# Altium footprint library Dallas Semiconductor Footprints.PcbLib: 181 footprints (part 4 of 12)
Each footprint in its own frame and in the unit in brackets; x right, y up, seen from the top. Pads: shape width x height; smd on the part's side, far side on the other; paste and mask are expansions set on the pad; w line width, h text height; cw(c..) or ccw(c..) is an arc to the next point about the centre after c.
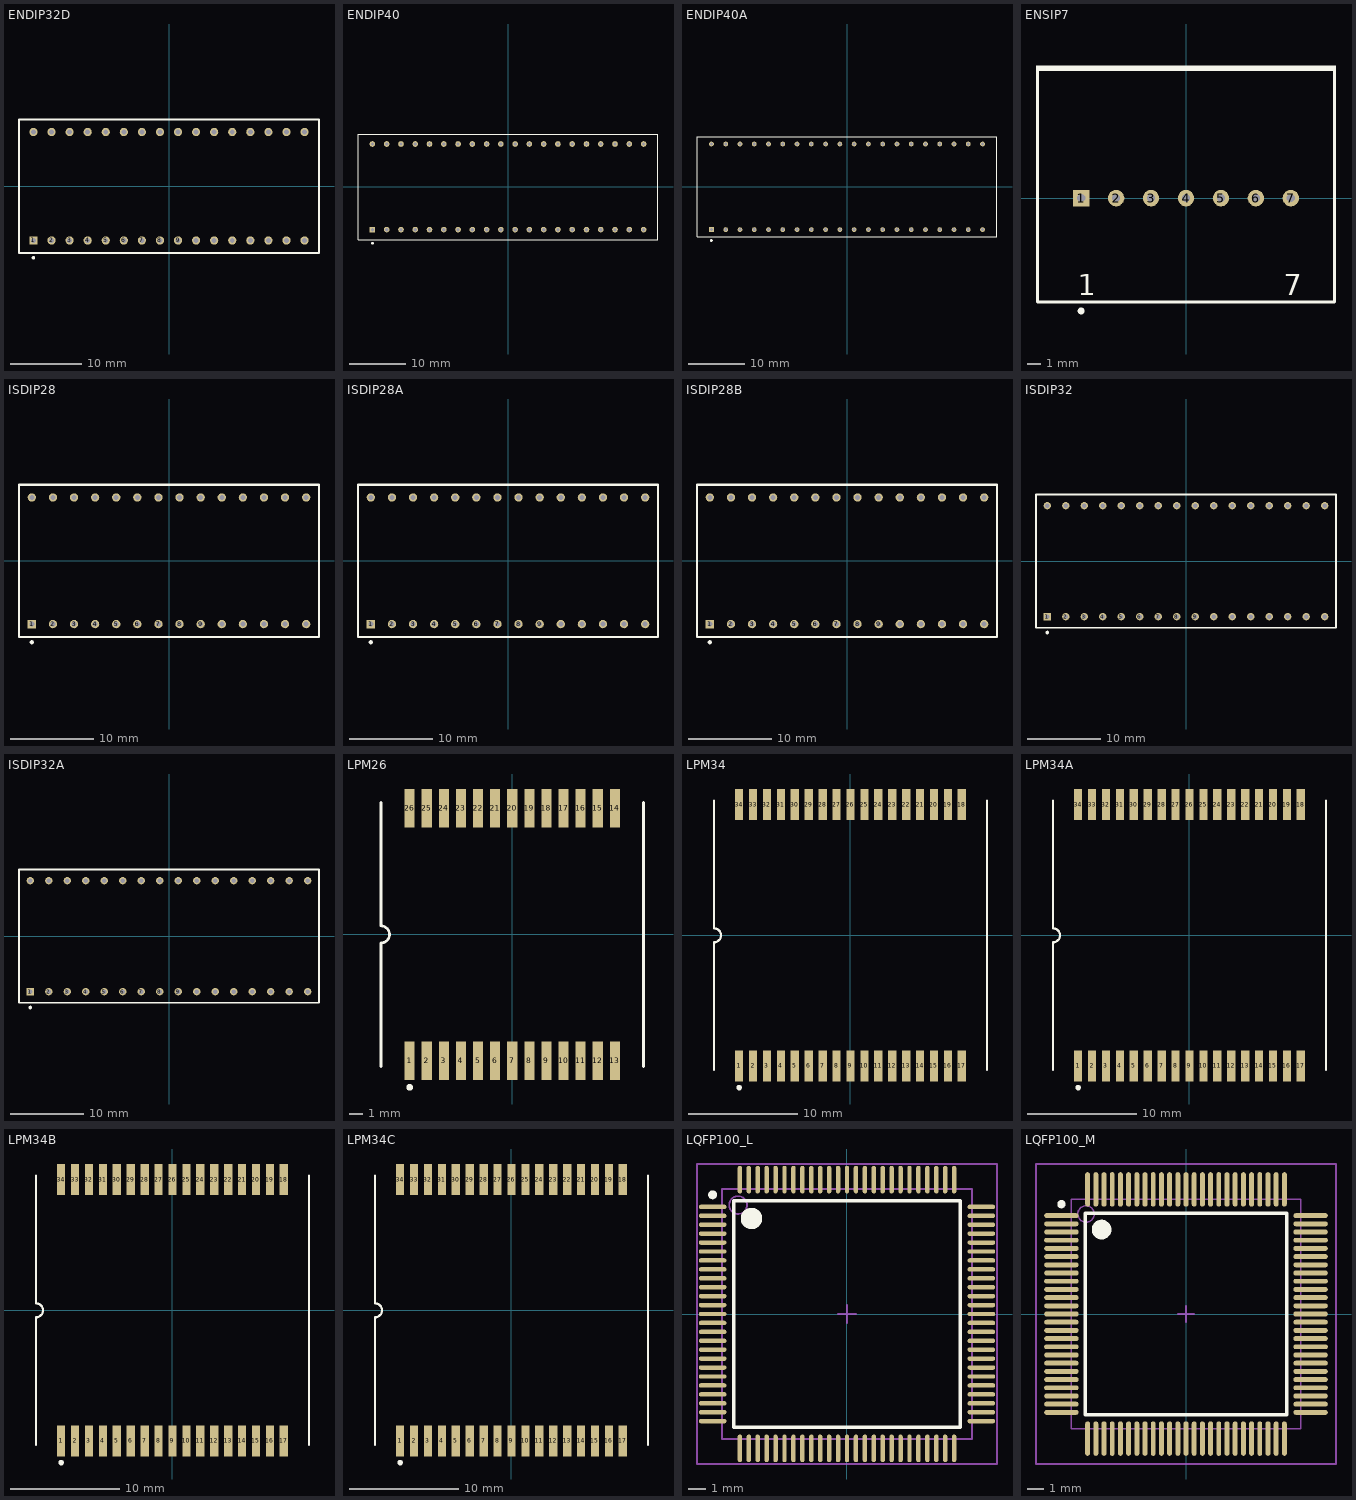
[diagram p3: the footprints below, top view; thin cyan lines are the x and y axes]

## ENDIP32D [mm] "DIP; 32 Rectangular Pins; Row Space 15.24 mm; Pitch 2.54 mm"
height 9.02
pads (32):
  rect 1.15x1.15 hole 0.7: 1(-19.05,-7.62)
  round 1.15 hole 0.7: 2(-16.51,-7.62) 3(-13.97,-7.62) 4(-11.43,-7.62) 5(-8.89,-7.62) 6(-6.35,-7.62) 7(-3.81,-7.62) 8(-1.27,-7.62) 9(1.27,-7.62) 10(3.81,-7.62) 11(6.35,-7.62) 12(8.89,-7.62) 13(11.43,-7.62) 14(13.97,-7.62) 15(16.51,-7.62) 16(19.05,-7.62) 17(19.05,7.62) 18(16.51,7.62) 19(13.97,7.62) 20(11.43,7.62) 21(8.89,7.62) 22(6.35,7.62) 23(3.81,7.62) 24(1.27,7.62) 25(-1.27,7.62) 26(-3.81,7.62) 27(-6.35,7.62) 28(-8.89,7.62) 29(-11.43,7.62) 30(-13.97,7.62) 31(-16.51,7.62) 32(-19.05,7.62)
Top Overlay:
  circle w0.25: c-19.05,-10.05 r0.125
  lines w0.25: -21.082,-9.4 -21.082,-0.508 -21.082,9.4 21.082,9.4 21.082,-9.4 -21.082,-9.4

## ENDIP40 [mm] "DIP; 40 Rectangular Pins; Row Space 15.24 mm; Pitch 2.54 mm"
height 9.27
pads (40):
  rect 1x1 hole 0.6: 1(-24.13,-7.62)
  round 1 hole 0.6: 2(-21.59,-7.62) 3(-19.05,-7.62) 4(-16.51,-7.62) 5(-13.97,-7.62) 6(-11.43,-7.62) 7(-8.89,-7.62) 8(-6.35,-7.62) 9(-3.81,-7.62) 10(-1.27,-7.62) 11(1.27,-7.62) 12(3.81,-7.62) 13(6.35,-7.62) 14(8.89,-7.62) 15(11.43,-7.62) 16(13.97,-7.62) 17(16.51,-7.62) 18(19.05,-7.62) 19(21.59,-7.62) 20(24.13,-7.62) 21(24.13,7.62) 22(21.59,7.62) 23(19.05,7.62) 24(16.51,7.62) 25(13.97,7.62) 26(11.43,7.62) 27(8.89,7.62) 28(6.35,7.62) 29(3.81,7.62) 30(1.27,7.62) 31(-1.27,7.62) 32(-3.81,7.62) 33(-6.35,7.62) 34(-8.89,7.62) 35(-11.43,7.62) 36(-13.97,7.62) 37(-16.51,7.62) 38(-19.05,7.62) 39(-21.59,7.62) 40(-24.13,7.62)
Top Overlay:
  circle w0.25: c-24.13,-10.05 r0.125
  lines w0.2: -26.7,-9.4 26.7,-9.4 26.7,9.4 -26.7,9.4 -26.7,-0.635 -26.7,-9.4

## ENDIP40A [mm] "DIP; 40 Rectangular Pins; Row Space 15.24 mm; Pitch 2.54 mm"
height 9.25
pads (40):
  rect 0.85x0.85 hole 0.5: 1(-24.13,-7.62)
  round 0.85 hole 0.5: 2(-21.59,-7.62) 3(-19.05,-7.62) 4(-16.51,-7.62) 5(-13.97,-7.62) 6(-11.43,-7.62) 7(-8.89,-7.62) 8(-6.35,-7.62) 9(-3.81,-7.62) 10(-1.27,-7.62) 11(1.27,-7.62) 12(3.81,-7.62) 13(6.35,-7.62) 14(8.89,-7.62) 15(11.43,-7.62) 16(13.97,-7.62) 17(16.51,-7.62) 18(19.05,-7.62) 19(21.59,-7.62) 20(24.13,-7.62) 21(24.13,7.62) 22(21.59,7.62) 23(19.05,7.62) 24(16.51,7.62) 25(13.97,7.62) 26(11.43,7.62) 27(8.89,7.62) 28(6.35,7.62) 29(3.81,7.62) 30(1.27,7.62) 31(-1.27,7.62) 32(-3.81,7.62) 33(-6.35,7.62) 34(-8.89,7.62) 35(-11.43,7.62) 36(-13.97,7.62) 37(-16.51,7.62) 38(-19.05,7.62) 39(-21.59,7.62) 40(-24.13,7.62)
Top Overlay:
  circle w0.25: c-24.13,-9.55 r0.125
  lines w0.2: -26.7,-8.9 -26.7,-0.635 -26.7,8.9 26.7,8.9 26.7,-8.9 -26.7,-8.9

## ENSIP7 [mm] "SIP; 7 Leads; Body 21.3 x 16.8 mm (LxW typ); Pitch 2.54 mm"
height 8.7
pads (7):
  rect 1.2x1.2 hole 0.6: 1(-7.62,0)
  round 1.2 hole 0.6: 2(-5.08,0) 3(-2.54,0) 4(0,0) 5(2.54,0) 6(5.08,0) 7(7.62,0)
Top Overlay:
  circle w0.25: c-7.62,-8.2 r0.125
  rectangle: -10.9,9.25 10.9,9.65
  lines w0.2: -10.8,9.55 -10.8,-7.55 10.8,-7.55 10.8,9.55
  text "7" at 7.12,-7.075 h1.5
  text "1" at -7.87,-7.075 h1.5

## ISDIP28 [mm] "DIP; 28 Rectangular Pins; Row Space 15.24 mm; Pitch 2.54 mm"
height 11.94
pads (28):
  rect 1x1 hole 0.6: 1(-16.51,-7.62)
  round 1 hole 0.6: 2(-13.97,-7.62) 3(-11.43,-7.62) 4(-8.89,-7.62) 5(-6.35,-7.62) 6(-3.81,-7.62) 7(-1.27,-7.62) 8(1.27,-7.62) 9(3.81,-7.62) 10(6.35,-7.62) 11(8.89,-7.62) 12(11.43,-7.62) 13(13.97,-7.62) 14(16.51,-7.62) 15(16.51,7.62) 16(13.97,7.62) 17(11.43,7.62) 18(8.89,7.62) 19(6.35,7.62) 20(3.81,7.62) 21(1.27,7.62) 22(-1.27,7.62) 23(-3.81,7.62) 24(-6.35,7.62) 25(-8.89,7.62) 26(-11.43,7.62) 27(-13.97,7.62) 28(-16.51,7.62)
Top Overlay:
  circle w0.25: c-16.51,-9.8 r0.125
  lines w0.25: -18.05,-9.15 -18.05,-0.635 -18.05,9.15 18.05,9.15 18.05,-9.15 -18.05,-9.15

## ISDIP28A [mm] "DIP; 28 Rectangular Pins; Row Space 15.24 mm; Pitch 2.54 mm"
height 11.94
pads (28):
  rect 1x1 hole 0.6: 1(-16.51,-7.62)
  round 1 hole 0.6: 2(-13.97,-7.62) 3(-11.43,-7.62) 4(-8.89,-7.62) 5(-6.35,-7.62) 6(-3.81,-7.62) 7(-1.27,-7.62) 8(1.27,-7.62) 9(3.81,-7.62) 10(6.35,-7.62) 11(8.89,-7.62) 12(11.43,-7.62) 13(13.97,-7.62) 14(16.51,-7.62) 15(16.51,7.62) 16(13.97,7.62) 17(11.43,7.62) 18(8.89,7.62) 19(6.35,7.62) 20(3.81,7.62) 21(1.27,7.62) 22(-1.27,7.62) 23(-3.81,7.62) 24(-6.35,7.62) 25(-8.89,7.62) 26(-11.43,7.62) 27(-13.97,7.62) 28(-16.51,7.62)
Top Overlay:
  circle w0.25: c-16.51,-9.8 r0.125
  lines w0.25: -18.05,-9.15 -18.05,-0.635 -18.05,9.15 18.05,9.15 18.05,-9.15 -18.05,-9.15

## ISDIP28B [mm] "DIP; 28 Rectangular Pins; Row Space 15.24 mm; Pitch 2.54 mm"
height 10.67
pads (28):
  rect 1x1 hole 0.6: 1(-16.51,-7.62)
  round 1 hole 0.6: 2(-13.97,-7.62) 3(-11.43,-7.62) 4(-8.89,-7.62) 5(-6.35,-7.62) 6(-3.81,-7.62) 7(-1.27,-7.62) 8(1.27,-7.62) 9(3.81,-7.62) 10(6.35,-7.62) 11(8.89,-7.62) 12(11.43,-7.62) 13(13.97,-7.62) 14(16.51,-7.62) 15(16.51,7.62) 16(13.97,7.62) 17(11.43,7.62) 18(8.89,7.62) 19(6.35,7.62) 20(3.81,7.62) 21(1.27,7.62) 22(-1.27,7.62) 23(-3.81,7.62) 24(-6.35,7.62) 25(-8.89,7.62) 26(-11.43,7.62) 27(-13.97,7.62) 28(-16.51,7.62)
Top Overlay:
  circle w0.25: c-16.51,-9.8 r0.125
  lines w0.25: -18.05,-9.15 -18.05,-0.635 -18.05,9.15 18.05,9.15 18.05,-9.15 -18.05,-9.15

## ISDIP32 [mm] "DIP; 32 Rectangular Pins; Row Space 15.24 mm; Pitch 2.54 mm"
height 11.94
pads (32):
  rect 1x1 hole 0.6: 1(-19.05,-7.62)
  round 1 hole 0.6: 2(-16.51,-7.62) 3(-13.97,-7.62) 4(-11.43,-7.62) 5(-8.89,-7.62) 6(-6.35,-7.62) 7(-3.81,-7.62) 8(-1.27,-7.62) 9(1.27,-7.62) 10(3.81,-7.62) 11(6.35,-7.62) 12(8.89,-7.62) 13(11.43,-7.62) 14(13.97,-7.62) 15(16.51,-7.62) 16(19.05,-7.62) 17(19.05,7.62) 18(16.51,7.62) 19(13.97,7.62) 20(11.43,7.62) 21(8.89,7.62) 22(6.35,7.62) 23(3.81,7.62) 24(1.27,7.62) 25(-1.27,7.62) 26(-3.81,7.62) 27(-6.35,7.62) 28(-8.89,7.62) 29(-11.43,7.62) 30(-13.97,7.62) 31(-16.51,7.62) 32(-19.05,7.62)
Top Overlay:
  circle w0.25: c-19.05,-9.8 r0.125
  lines w0.25: -20.6,-9.15 -20.6,-0.635 -20.6,9.15 20.6,9.15 20.6,-9.15 -20.6,-9.15

## ISDIP32A [mm] "DIP; 32 Rectangular Pins; Row Space 15.24 mm; Pitch 2.54 mm"
height 10.4
pads (32):
  rect 1x1 hole 0.6: 1(-19.05,-7.62)
  round 1 hole 0.6: 2(-16.51,-7.62) 3(-13.97,-7.62) 4(-11.43,-7.62) 5(-8.89,-7.62) 6(-6.35,-7.62) 7(-3.81,-7.62) 8(-1.27,-7.62) 9(1.27,-7.62) 10(3.81,-7.62) 11(6.35,-7.62) 12(8.89,-7.62) 13(11.43,-7.62) 14(13.97,-7.62) 15(16.51,-7.62) 16(19.05,-7.62) 17(19.05,7.62) 18(16.51,7.62) 19(13.97,7.62) 20(11.43,7.62) 21(8.89,7.62) 22(6.35,7.62) 23(3.81,7.62) 24(1.27,7.62) 25(-1.27,7.62) 26(-3.81,7.62) 27(-6.35,7.62) 28(-8.89,7.62) 29(-11.43,7.62) 30(-13.97,7.62) 31(-16.51,7.62) 32(-19.05,7.62)
Top Overlay:
  circle w0.25: c-19.05,-9.8 r0.125
  lines w0.25: -20.6,-9.15 -20.6,-0.635 -20.6,9.15 20.6,9.15 20.6,-9.15 -20.6,-9.15

## LPM26 [mm] "LPM; 26 Leads; Body 19.3 x 20 mm (LxW typ); Pitch 1.27 mm"
height 5.72
pads (26):
  rect 0.75x2.85 smd: 1(-7.62,-9.375) 2(-6.35,-9.375) 3(-5.08,-9.375) 4(-3.81,-9.375) 5(-2.54,-9.375) 6(-1.27,-9.375) 7(0,-9.375) 8(1.27,-9.375) 9(2.54,-9.375) 10(3.81,-9.375) 11(5.08,-9.375) 12(6.35,-9.375) 13(7.62,-9.375) 14(7.62,9.375) 15(6.35,9.375) 16(5.08,9.375) 17(3.81,9.375) 18(2.54,9.375) 19(1.27,9.375) 20(0,9.375) 21(-1.27,9.375) 22(-2.54,9.375) 23(-3.81,9.375) 24(-5.08,9.375) 25(-6.35,9.375) 26(-7.62,9.375)
Top Overlay:
  circle w0.25: c-7.62,-11.35 r0.125
  lines w0.2: -9.75,-9.8 -9.75,-0.635 ccw(c-9.75,0) -9.75,0.635 -9.75,9.8 ; 9.75,-9.8 9.75,9.8

## LPM34 [mm] "LPM; 34 Leads; Body 24.6 x 25 mm (LxW typ); Pitch 1.27 mm"
height 6.35
pads (34):
  rect 0.75x2.85 smd: 1(-10.16,-11.925) 2(-8.89,-11.925) 3(-7.62,-11.925) 4(-6.35,-11.925) 5(-5.08,-11.925) 6(-3.81,-11.925) 7(-2.54,-11.925) 8(-1.27,-11.925) 9(0,-11.925) 10(1.27,-11.925) 11(2.54,-11.925) 12(3.81,-11.925) 13(5.08,-11.925) 14(6.35,-11.925) 15(7.62,-11.925) 16(8.89,-11.925) 17(10.16,-11.925) 18(10.16,11.925) 19(8.89,11.925) 20(7.62,11.925) 21(6.35,11.925) 22(5.08,11.925) 23(3.81,11.925) 24(2.54,11.925) 25(1.27,11.925) 26(0,11.925) 27(-1.27,11.925) 28(-2.54,11.925) 29(-3.81,11.925) 30(-5.08,11.925) 31(-6.35,11.925) 32(-7.62,11.925) 33(-8.89,11.925) 34(-10.16,11.925)
Top Overlay:
  circle w0.25: c-10.16,-13.9 r0.125
  lines w0.2: -12.45,-12.3 -12.45,-0.635 ccw(c-12.45,0) -12.45,0.635 -12.45,12.3 ; 12.45,-12.3 12.45,12.3

## LPM34A [mm] "LPM; 34 Leads; Body 24.4 x 25 mm (LxW typ); Pitch 1.27 mm"
height 6.23
pads (34):
  rect 0.75x2.85 smd: 1(-10.16,-11.925) 2(-8.89,-11.925) 3(-7.62,-11.925) 4(-6.35,-11.925) 5(-5.08,-11.925) 6(-3.81,-11.925) 7(-2.54,-11.925) 8(-1.27,-11.925) 9(0,-11.925) 10(1.27,-11.925) 11(2.54,-11.925) 12(3.81,-11.925) 13(5.08,-11.925) 14(6.35,-11.925) 15(7.62,-11.925) 16(8.89,-11.925) 17(10.16,-11.925) 18(10.16,11.925) 19(8.89,11.925) 20(7.62,11.925) 21(6.35,11.925) 22(5.08,11.925) 23(3.81,11.925) 24(2.54,11.925) 25(1.27,11.925) 26(0,11.925) 27(-1.27,11.925) 28(-2.54,11.925) 29(-3.81,11.925) 30(-5.08,11.925) 31(-6.35,11.925) 32(-7.62,11.925) 33(-8.89,11.925) 34(-10.16,11.925)
Top Overlay:
  circle w0.25: c-10.16,-13.9 r0.125
  lines w0.2: -12.45,-12.3 -12.45,-0.635 ccw(c-12.45,0) -12.45,0.635 -12.45,12.3 ; 12.45,-12.3 12.45,12.3

## LPM34B [mm] "LPM; 34 Leads; Body 24.4 x 25 mm (LxW typ); Pitch 1.27 mm"
height 6.48
pads (34):
  rect 0.75x2.85 smd: 1(-10.16,-11.925) 2(-8.89,-11.925) 3(-7.62,-11.925) 4(-6.35,-11.925) 5(-5.08,-11.925) 6(-3.81,-11.925) 7(-2.54,-11.925) 8(-1.27,-11.925) 9(0,-11.925) 10(1.27,-11.925) 11(2.54,-11.925) 12(3.81,-11.925) 13(5.08,-11.925) 14(6.35,-11.925) 15(7.62,-11.925) 16(8.89,-11.925) 17(10.16,-11.925) 18(10.16,11.925) 19(8.89,11.925) 20(7.62,11.925) 21(6.35,11.925) 22(5.08,11.925) 23(3.81,11.925) 24(2.54,11.925) 25(1.27,11.925) 26(0,11.925) 27(-1.27,11.925) 28(-2.54,11.925) 29(-3.81,11.925) 30(-5.08,11.925) 31(-6.35,11.925) 32(-7.62,11.925) 33(-8.89,11.925) 34(-10.16,11.925)
Top Overlay:
  circle w0.25: c-10.16,-13.9 r0.125
  lines w0.2: -12.45,-12.3 -12.45,-0.635 ccw(c-12.45,0) -12.45,0.635 -12.45,12.3 ; 12.45,-12.3 12.45,12.3

## LPM34C [mm] "LPM; 34 Leads; Body 24.4 x 25 mm (LxW typ); Pitch 1.27 mm"
height 6.35
pads (34):
  rect 0.75x2.85 smd: 1(-10.16,-11.925) 2(-8.89,-11.925) 3(-7.62,-11.925) 4(-6.35,-11.925) 5(-5.08,-11.925) 6(-3.81,-11.925) 7(-2.54,-11.925) 8(-1.27,-11.925) 9(0,-11.925) 10(1.27,-11.925) 11(2.54,-11.925) 12(3.81,-11.925) 13(5.08,-11.925) 14(6.35,-11.925) 15(7.62,-11.925) 16(8.89,-11.925) 17(10.16,-11.925) 18(10.16,11.925) 19(8.89,11.925) 20(7.62,11.925) 21(6.35,11.925) 22(5.08,11.925) 23(3.81,11.925) 24(2.54,11.925) 25(1.27,11.925) 26(0,11.925) 27(-1.27,11.925) 28(-2.54,11.925) 29(-3.81,11.925) 30(-5.08,11.925) 31(-6.35,11.925) 32(-7.62,11.925) 33(-8.89,11.925) 34(-10.16,11.925)
Top Overlay:
  circle w0.25: c-10.16,-13.9 r0.125
  lines w0.2: -12.45,-12.3 -12.45,-0.635 ccw(c-12.45,0) -12.45,0.635 -12.45,12.3 ; 12.45,-12.3 12.45,12.3

## LQFP100_L [mm] "100-Pin Thin Quad Flat Pack 0.5 mm Pitch, IPC High Density"
height 1.6
pads (100):
  oval 1.55x0.25 smd: 1(-7.525,6) 2(-7.525,5.5) 3(-7.525,5) 4(-7.525,4.5) 5(-7.525,4) 6(-7.525,3.5) 7(-7.525,3) 8(-7.525,2.5) 9(-7.525,2) 10(-7.525,1.5) 11(-7.525,1) 12(-7.525,0.5) 13(-7.525,0) 14(-7.525,-0.5) 15(-7.525,-1) 16(-7.525,-1.5) 17(-7.525,-2) 18(-7.525,-2.5) 19(-7.525,-3) 20(-7.525,-3.5) 21(-7.525,-4) 22(-7.525,-4.5) 23(-7.525,-5) 24(-7.525,-5.5) 25(-7.525,-6) 51(7.525,-6) 52(7.525,-5.5) 53(7.525,-5) 54(7.525,-4.5) 55(7.525,-4) 56(7.525,-3.5) 57(7.525,-3) 58(7.525,-2.5) 59(7.525,-2) 60(7.525,-1.5) 61(7.525,-1) 62(7.525,-0.5) 63(7.525,0) 64(7.525,0.5) 65(7.525,1) 66(7.525,1.5) 67(7.525,2) 68(7.525,2.5) 69(7.525,3) 70(7.525,3.5) 71(7.525,4) 72(7.525,4.5) 73(7.525,5) 74(7.525,5.5) 75(7.525,6)
  oval 0.25x1.55 smd: 26(-6,-7.525) 27(-5.5,-7.525) 28(-5,-7.525) 29(-4.5,-7.525) 30(-4,-7.525) 31(-3.5,-7.525) 32(-3,-7.525) 33(-2.5,-7.525) 34(-2,-7.525) 35(-1.5,-7.525) 36(-1,-7.525) 37(-0.5,-7.525) 38(0,-7.525) 39(0.5,-7.525) 40(1,-7.525) 41(1.5,-7.525) 42(2,-7.525) 43(2.5,-7.525) 44(3,-7.525) 45(3.5,-7.525) 46(4,-7.525) 47(4.5,-7.525) 48(5,-7.525) 49(5.5,-7.525) 50(6,-7.525) 76(6,7.525) 77(5.5,7.525) 78(5,7.525) 79(4.5,7.525) 80(4,7.525) 81(3.5,7.525) 82(3,7.525) 83(2.5,7.525) 84(2,7.525) 85(1.5,7.525) 86(1,7.525) 87(0.5,7.525) 88(0,7.525) 89(-0.5,7.525) 90(-1,7.525) 91(-1.5,7.525) 92(-2,7.525) 93(-2.5,7.525) 94(-3,7.525) 95(-3.5,7.525) 96(-4,7.525) 97(-4.5,7.525) 98(-5,7.525) 99(-5.5,7.525) 100(-6,7.525)
Top Overlay:
  circle w0.6: c-5.35,5.35 r0.3
  circle w0.25: c-7.525,6.675 r0.125
  lines w0.2: -6.35,-6.35 6.35,-6.35 6.35,6.35 -6.35,6.35 -6.35,-6.35
Mechanical 13:
  circle w0.1: c-6.1,6.1 r0.5
  lines w0.1: -7,-7 7,-7 7,7 -7,7 -7,-7
Mechanical 15:
  lines w0.1: -0.5,0 0.5,0 ; 0,-0.5 0,0.5 ; -8.4,-8.4 8.4,-8.4 8.4,8.4 -8.4,8.4 -8.4,-8.4
3D body: height 1.6, standoff 0, extent -7,-7 7,7

## LQFP100_M [mm] "100-Pin Thin Quad Flat Pack 0.5 mm Pitch, IPC Low Density"
height 1.6
pads (100):
  oval 2.1x0.3 smd: 1(-7.6,6) 2(-7.6,5.5) 3(-7.6,5) 4(-7.6,4.5) 5(-7.6,4) 6(-7.6,3.5) 7(-7.6,3) 8(-7.6,2.5) 9(-7.6,2) 10(-7.6,1.5) 11(-7.6,1) 12(-7.6,0.5) 13(-7.6,0) 14(-7.6,-0.5) 15(-7.6,-1) 16(-7.6,-1.5) 17(-7.6,-2) 18(-7.6,-2.5) 19(-7.6,-3) 20(-7.6,-3.5) 21(-7.6,-4) 22(-7.6,-4.5) 23(-7.6,-5) 24(-7.6,-5.5) 25(-7.6,-6) 51(7.6,-6) 52(7.6,-5.5) 53(7.6,-5) 54(7.6,-4.5) 55(7.6,-4) 56(7.6,-3.5) 57(7.6,-3) 58(7.6,-2.5) 59(7.6,-2) 60(7.6,-1.5) 61(7.6,-1) 62(7.6,-0.5) 63(7.6,0) 64(7.6,0.5) 65(7.6,1) 66(7.6,1.5) 67(7.6,2) 68(7.6,2.5) 69(7.6,3) 70(7.6,3.5) 71(7.6,4) 72(7.6,4.5) 73(7.6,5) 74(7.6,5.5) 75(7.6,6)
  oval 0.3x2.1 smd: 26(-6,-7.6) 27(-5.5,-7.6) 28(-5,-7.6) 29(-4.5,-7.6) 30(-4,-7.6) 31(-3.5,-7.6) 32(-3,-7.6) 33(-2.5,-7.6) 34(-2,-7.6) 35(-1.5,-7.6) 36(-1,-7.6) 37(-0.5,-7.6) 38(0,-7.6) 39(0.5,-7.6) 40(1,-7.6) 41(1.5,-7.6) 42(2,-7.6) 43(2.5,-7.6) 44(3,-7.6) 45(3.5,-7.6) 46(4,-7.6) 47(4.5,-7.6) 48(5,-7.6) 49(5.5,-7.6) 50(6,-7.6) 76(6,7.6) 77(5.5,7.6) 78(5,7.6) 79(4.5,7.6) 80(4,7.6) 81(3.5,7.6) 82(3,7.6) 83(2.5,7.6) 84(2,7.6) 85(1.5,7.6) 86(1,7.6) 87(0.5,7.6) 88(0,7.6) 89(-0.5,7.6) 90(-1,7.6) 91(-1.5,7.6) 92(-2,7.6) 93(-2.5,7.6) 94(-3,7.6) 95(-3.5,7.6) 96(-4,7.6) 97(-4.5,7.6) 98(-5,7.6) 99(-5.5,7.6) 100(-6,7.6)
Top Overlay:
  circle w0.6: c-5.15,5.15 r0.3
  circle w0.25: c-7.6,6.7 r0.125
  lines w0.2: -6.15,-6.15 6.15,-6.15 6.15,6.15 -6.15,6.15 -6.15,-6.15
Mechanical 13:
  circle w0.1: c-6.1,6.1 r0.5
  lines w0.1: -7,-7 7,-7 7,7 -7,7 -7,-7
Mechanical 15:
  lines w0.1: -0.5,0 0.5,0 ; 0,-0.5 0,0.5 ; -9.15,-9.15 9.15,-9.15 9.15,9.15 -9.15,9.15 -9.15,-9.15
3D body: height 1.6, standoff 0, extent -7,-7 7,7